# Altium schematic symbol library Lib1.SchLib: 23 symbols
Pins are listed as number, name and electrical type; pins without a type are passive.

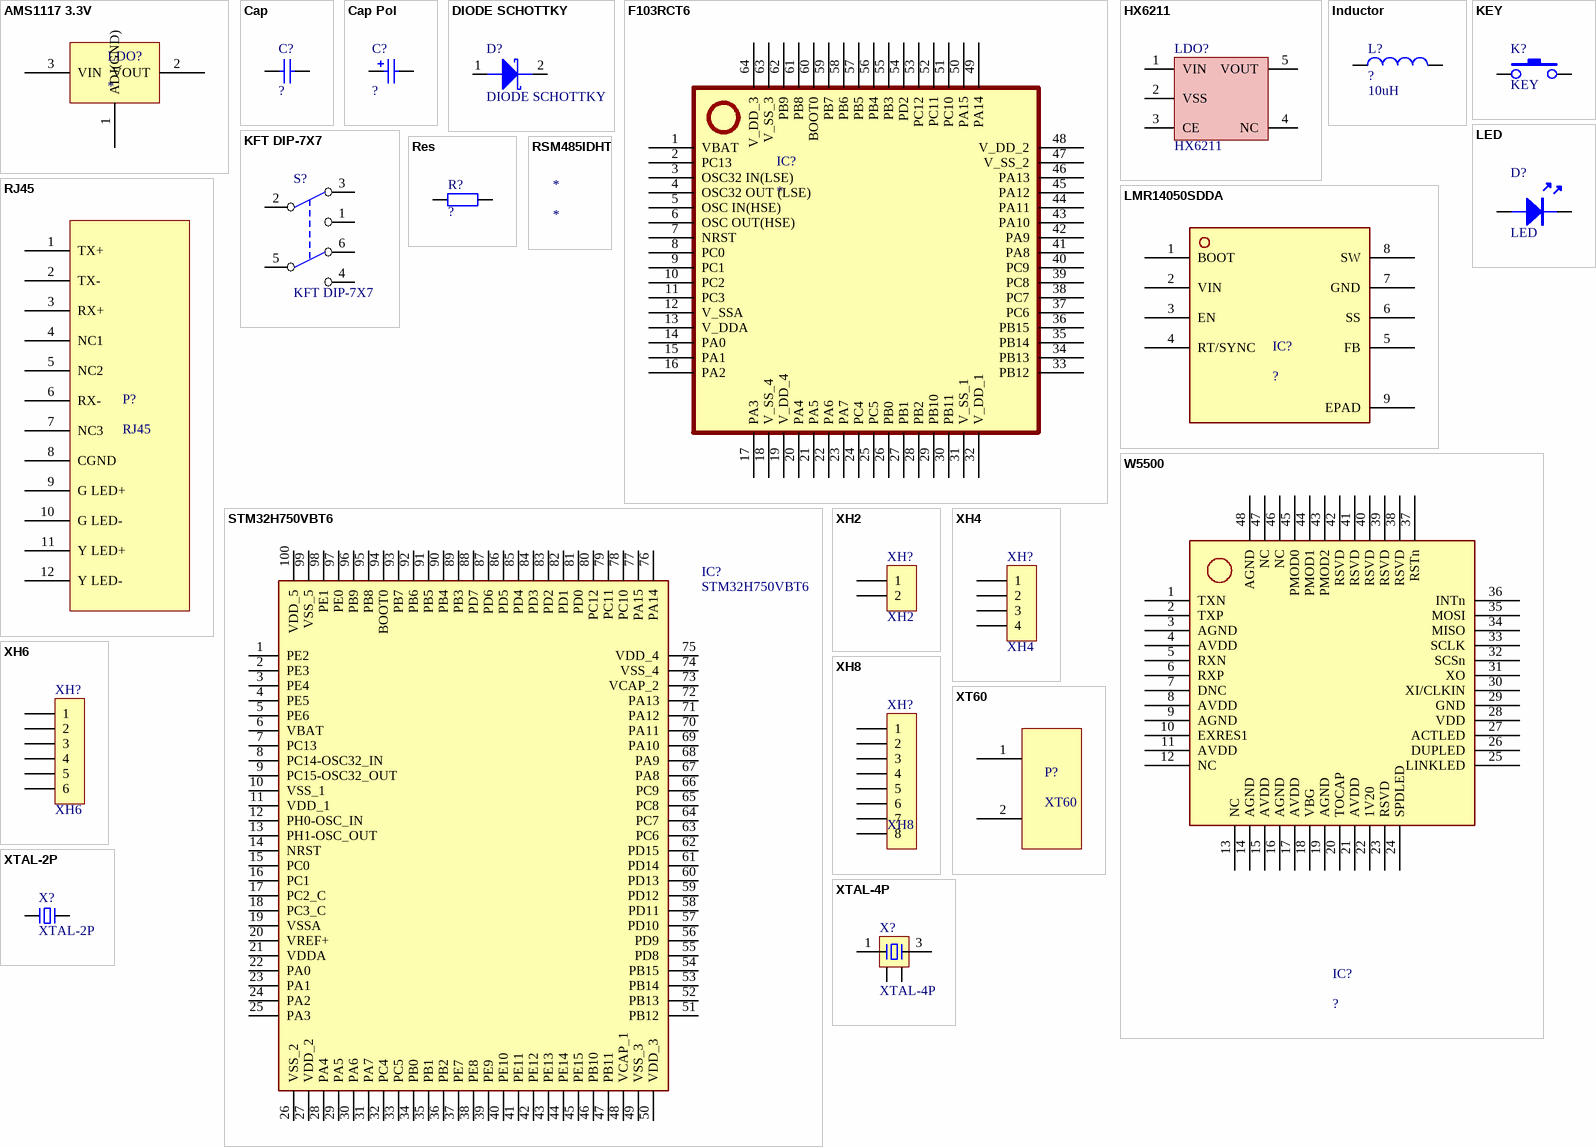
[diagram p0: symbols AMS1117 3.3V to XTAL-4P]

## AMS1117 3.3V
designator LDO?
footprint SOT230P700X180-4M (SOT223, 4-Leads, Body 6.50x7.00mm (avg), Pitch 2.30mm, IPC Low Density)
pins: 1 ADJ(GND), 2 VOUT, 3 VIN

## Cap
designator C?, comment ?
Capacitor; Published: 8-Jun-2000; LatestRevisionDate: 17-Jul-2002; LatestRevisionNote: Re-released for DXP Platform.; PackageReference: RAD-0.3; Publisher: Altium Limited; PackageDescription: Radial Cap, Thru-Hole; 2 Leads; 0.3 in Pin Spacing
simulation model CAP (Capacitor)
signal-integrity model Cap
footprint CAPC2012X10M (Chip Capacitor, 2-Leads, Body 2.00x1.25mm, IPC Low Density)
pins: 1, 2

## Cap Pol
designator C?, comment ?
Polarized Capacitor (Radial); Published: 8-Jun-2000; LatestRevisionDate: 17-Jul-2002; LatestRevisionNote: Re-released for DXP Platform.; PackageReference: RB7.6-15; Publisher: Altium Limited; PackageDescription: Polarized Capacitor (Radial); 2 Leads
simulation model CAP (Capacitor)
signal-integrity model Cap Pol
footprint CAP 6.3x15
pins: 1, 2
1 alternate drawing of the same symbol

## DIODE SCHOTTKY
designator D?
肖特基二极管
footprint DO-15
footprint DO-15L
footprint DO-15LV
footprint DO-15V
footprint DO-27
footprint DO-27V
footprint DO-35
footprint DO-35V
footprint DO-41
footprint DO-41G
footprint DO-41GV
footprint DO-41V
footprint DO-201AD
footprint DO-201ADV
footprint LL34 (玻封二极管)
footprint SMA/DO-214AC (塑封二极管)
footprint SMB/DO-214AA (塑封二极管)
footprint SMC/DO-214AB (塑封二极管)
footprint SOD-123 (塑封二极管)
footprint SOD-323 (塑封二极管)
footprint SOD-523 (塑封二极管)
footprint SMA (DO-214AC)
pins: 1, 2

## F103RCT6
designator IC?
STM32F103RCT6 LQFP64
footprint TSQFP50P1200X1200X160-64M (TSQFP, 64-Leads, Body 10.00x10.00mm, Pitch 0.50mm, IPC Low Density)
pins: 1 VBAT, 2 PC13, 3 OSC32 IN(LSE), 4 OSC32 OUT (LSE), 5 OSC IN(HSE), 6 OSC OUT(HSE), 7 NRST, 8 PC0, 9 PC1, 10 PC2, 11 PC3, 12 V_SSA, 13 V_DDA, 14 PA0, 15 PA1, 16 PA2, 17 PA3, 18 V_SS_4, 19 V_DD_4, 20 PA4, 21 PA5, 22 PA6, 23 PA7, 24 PC4, 25 PC5, 26 PB0, 27 PB1, 28 PB2, 29 PB10, 30 PB11, 31 V_SS_1, 32 V_DD_1, 33 PB12, 34 PB13, 35 PB14, 36 PB15, 37 PC6, 38 PC7, 39 PC8, 40 PC9, 41 PA8, 42 PA9, 43 PA10, 44 PA11, 45 PA12, 46 PA13, 47 V_SS_2, 48 V_DD_2, 49 PA14, 50 PA15, 51 PC10, 52 PC11, 53 PC12, 54 PD2, 55 PB3, 56 PB4, 57 PB5, 58 PB6, 59 PB7, 60 BOOT0, 61 PB8, 62 PB9, 63 V_SS_3, 64 V_DD_3

## HX6211
designator LDO?
3.3V小体积LDO，最大电流350mA
footprint SOT23-5 (SOT23, 5-Leads, Body 2.90x2.70mm, Pitch 0.95mm, IPC Medium Density)
footprint SOT-23-5
pins: 1 VIN (power), 2 VSS (power), 3 CE (power), 4 NC (power), 5 VOUT (power)

## Inductor
designator L?, comment ?  value 10uH
Inductor; Code_IEC: 1005; Published: 8-Jun-2000; LatestRevisionDate: 29-May-2009; LatestRevisionNote: IPC-7351 Footprint Added.; PackageReference: 0402-A; Publisher: Altium Limited; PackageDescription: Chip Inductor; Code_JEITA: 0402
simulation model INDUCTOR (Inductor)
signal-integrity model Inductor
footprint INDP4442X20M (Precision Wire Wound Inductor, 2-Leads, Body 4.40x4.20mm, IPC Low Density)
pins: 1, 2

## KEY
designator K?
footprint DIP-3X6X4.3
footprint DIP-3X6X4.3_C
footprint DIP-3X6X5
footprint DIP-3X6X5_C
footprint DIP-6X6X4.3
footprint DIP-6X6X4.3_C
footprint DIP-6X6X5
footprint DIP-6X6X5_C
footprint DIP-6X6X5_C
footprint DIP-6X6X6
footprint DIP-6X6X6_C
footprint DIP-6X6X7
footprint DIP-6X6X7_C
footprint DIP-6X6X8
footprint DIP-6X6X8_C
footprint DIP-6X6X9
footprint DIP-6X6X9_C
footprint DIP-6X6X10
footprint DIP-6X6X10_C
footprint DIP-6X6X11
footprint DIP-6X6X11_C
footprint DIP-6X6X12
footprint DIP-6X6X12_C
footprint DIP-6X6X13
footprint DIP-6X6X14 (6*6*14mm)
footprint DIP-6X6X15
footprint DIP-12X12X4.3
footprint DIP-12X12X5
footprint DIP-12X12X6
footprint DIP-12X12X8
footprint DIP-12X12X9
footprint DIP-12X12X10
footprint DIP-12X12X11
footprint DIP-12X12X12
footprint DIP-12X12X13
footprint SMD-3X6X2.5
footprint SMD-3X6X4.3
footprint SMD-3X6X5
footprint SMD-4X4X1.5
footprint SMD-6X6X4.3
footprint SMD-6X6X5
footprint SMD-6X6X6
footprint SMD-6X6X7
footprint SMD-6X6X8
footprint SMD-6X6X9
footprint SMD-6X6X10
footprint SMD-6X6X11
footprint SMD-6X6X12
footprint SMD-6X6X13 (6*6*13mm)
footprint SMD-6X6X14
footprint SMD-6X6X15
footprint SMD-12X12X4.3
footprint SMD-12X12X5
footprint SMD-12X12X6
footprint SMD-12X12X7
footprint SMD-12X12X8 (12*12*8mm)
footprint SMD-12X12X9
footprint SMD-12X12X10
footprint SMD-12X12X11
footprint SMD-12X12X12 (12*12*12mm)
footprint SMD-12X12X13
footprint SMD-SW2X4
footprint KEY8037 (SODFL, 2-Leads, Body 3.70x8.00mm, IPC Low Density)
pins: 1, 2

## KFT DIP-7X7
designator S?
footprint 7X7 DIP
pins: 1, 2, 3, 4, 5, 6

## LED
designator D?
footprint LED5-BLUE
footprint LED5-GRE
footprint LED5-RED
footprint LED5-YEL
footprint LED3-BLUE
footprint LED3-GRE
footprint LED3-RED
footprint LED3-YEL
footprint 1WLED
footprint LED-0603B
footprint LED-0603G
footprint LED-0805R
footprint LED-0603W
footprint LED-0603Y
footprint LED-0805B
footprint LED-0805G
footprint LED-0805R
footprint LED-0603W
footprint LED-0805Y
footprint LED-1206B
footprint LED-1206G
footprint LED-1206R
footprint LED-1206W
footprint LED-1206Y
footprint 0805D (SMD, 0805)
footprint LED-0805 (LED, SMD, 0805)
pins: 1, 2

## LMR14050SDDA
designator IC?, comment ?
footprint SOP127P600X170_HS-9M (SOP, 8-Leads, Body 4.90x3.90mm, Pitch 1.27mm, Thermal Pad 2.65x1.65mm, IPC Low Density)
pins: 1 BOOT, 2 VIN, 3 EN, 4 RT/SYNC, 5 FB, 6 SS, 7 GND, 8 SW, 9 EPAD

## Res
designator R?, comment ?
Resistor; Published: 8-Jun-2000; LatestRevisionDate: 17-Jul-2002; LatestRevisionNote: Re-released for DXP Platform.; PackageReference: AXIAL-0.4; Publisher: Altium Limited; PackageDescription: Axial Device, Thru-Hole; 2 Leads; 0.4 in Pin Spacing
simulation model RESISTOR (Resistor)
signal-integrity model Res
footprint 0603 (SMD, 0603)
footprint 0805 (SMD, 0805)
pins: 1, 2

## RJ45
designator P?
footprint RJ45
pins: 1 TX+, 2 TX-, 3 RX+, 4 NC1, 5 NC2, 6 RX-, 7 NC3, 8 CGND, 9 G LED+, 10 G LED-, 11 Y LED+, 12 Y LED-

## RSM485IDHT
designator *

## STM32H750VBT6
designator IC?
Integrated Circuit; Manufacturer_Name: STMicroelectronics; Datasheet Link: https://www.st.com/resource/en/datasheet/stm32h750vb.pdf; Height: 1.6mm; Manufacturer_Part_Number: STM32H750VBT6; Mouser Part Number: 511-STM32H750VBT6; Mouser Price/Stock: https://www.mouser.com/Search/Refine.aspx?Keyword=511-STM32H750VBT6
footprint TSQFP50P1600X1600X160-100M (TSQFP, 100-Leads, Body 14.00x14.00mm, Pitch 0.50mm, IPC Low Density)
pins: 1 PE2, 2 PE3, 3 PE4, 4 PE5, 5 PE6, 6 VBAT, 7 PC13, 8 PC14-OSC32_IN, 9 PC15-OSC32_OUT, 10 VSS_1, 11 VDD_1, 12 PH0-OSC_IN, 13 PH1-OSC_OUT, 14 NRST, 15 PC0, 16 PC1, 17 PC2_C, 18 PC3_C, 19 VSSA, 20 VREF+, 21 VDDA, 22 PA0, 23 PA1, 24 PA2, 25 PA3, 26 VSS_2, 27 VDD_2, 28 PA4, 29 PA5, 30 PA6, 31 PA7, 32 PC4, 33 PC5, 34 PB0, 35 PB1, 36 PB2, 37 PE7, 38 PE8, 39 PE9, 40 PE10, 41 PE11, 42 PE12, 43 PE13, 44 PE14, 45 PE15, 46 PB10, 47 PB11, 48 VCAP_1, 49 VSS_3, 50 VDD_3, 51 PB12, 52 PB13, 53 PB14, 54 PB15, 55 PD8, 56 PD9, 57 PD10, 58 PD11, 59 PD12, 60 PD13, 61 PD14, 62 PD15, 63 PC6, 64 PC7, 65 PC8, 66 PC9, 67 PA8, 68 PA9, 69 PA10, 70 PA11, 71 PA12, 72 PA13, 73 VCAP_2, 74 VSS_4, 75 VDD_4, 76 PA14, 77 PA15, 78 PC10, 79 PC11, 80 PC12, 81 PD0, 82 PD1, 83 PD2, 84 PD3, 85 PD4, 86 PD5, 87 PD6, 88 PD7, 89 PB3, 90 PB4, 91 PB5, 92 PB6, 93 PB7, 94 BOOT0, 95 PB8, 96 PB9, 97 PE0, 98 PE1, 99 VSS_5, 100 VDD_5

## W5500
designator IC?, comment ?
Ethernet
footprint TSQFP50P900X900X160-48M (TSQFP, 48-Leads, Body 7.00x7.00mm, Pitch 0.50mm, IPC Low Density)
pins: 1 TXN, 2 TXP, 3 AGND, 4 AVDD, 5 RXN, 6 RXP, 7 DNC, 8 AVDD, 9 AGND, 10 EXRES1, 11 AVDD, 12 NC, 13 NC, 14 AGND, 15 AVDD, 16 AGND, 17 AVDD, 18 VBG, 19 AGND, 20 TOCAP, 21 AVDD, 22 1V20, 23 RSVD, 24 SPDLED, 25 LINKLED, 26 DUPLED, 27 ACTLED, 28 VDD, 29 GND, 30 XI/CLKIN, 31 XO, 32 SCSn, 33 SCLK, 34 MISO, 35 MOSI, 36 INTn, 37 RSTn, 38 RSVD, 39 RSVD, 40 RSVD, 41 RSVD, 42 RSVD, 43 PMOD2, 44 PMOD1, 45 PMOD0, 46 NC, 47 NC, 48 AGND

## XH2
designator XH?
footprint XH2/2.54mm/90
footprint XH2/2.54mm/180
pins: 1, 2

## XH4
designator XH?
footprint XH4/2.54mm/90
footprint XH4/2.54mm/180
pins: 1, 2, 3, 4

## XH6
designator XH?
footprint XH6/2.54mm/90
footprint XH6/2.54mm/180
pins: 1, 2, 3, 4, 5, 6

## XH8
designator XH?
footprint XH6/2.54mm/90
footprint XH6/2.54mm/180
footprint XH8 (Footprint not found)
pins: 1, 2, 3, 4, 5, 6, 7, 8

## XT60
designator P?
footprint XT60H-F (XT60H-��ͷ-����)
pins: 1, 2

## XTAL-2P
designator X?
2脚无源晶振
footprint FC-135 32.768KHz
footprint XC53G2 8Mhz
pins: 1, 2

## XTAL-4P
designator X?
4脚无源晶振
footprint XTAL4P 3225
pins: 1, 2, 3, 4